# Altium schematic symbol library IHDM1008BCEV100M30.SchLib: 1 symbol
Pins are listed as number, name and electrical type; pins without a type are passive.

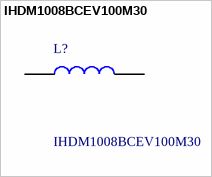
[diagram p0: symbol IHDM1008BCEV100M30]

## IHDM1008BCEV100M30
designator L?
VISHAY - IHDM1008BCEV100M30 - INDUCTOR, 10UH, 20%, 30A; Geometry.Height: 22.75mm; Manufacturer_Name: Vishay; Manufacturer_Part_Number: IHDM1008BCEV100M30; Mouser Part Number: 70-IHDM1008BCV100M30; Mouser Price/Stock: https://www.mouser.co.uk/ProductDetail/Vishay-Dale/IHDM1008BCEV100M30?qs=T3oQrply3y8HteQqJVJyLg%3D%3D; Arrow Part Number: *; Arrow Price/Stock: *; Datasheet Link: https://www.mouser.com/datasheet/2/427/ihdm-1008bc-v0-1596104.pdf
footprint IHDM1008BCEV100M30
pins: 1, 2